# Altium schematic symbol library 3G30A-2C.SchLib: 1 symbol
Pins are listed as number, name and electrical type; pins without a type are passive.

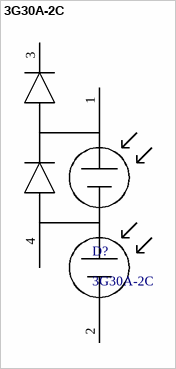
[diagram p0: symbol 3G30A-2C]

## 3G30A-2C
designator D?
Solar cell x2
footprint 3G30A_2C
pins: 1, 2, 3, 4